# EAGLE library part DS2483 (library greg)
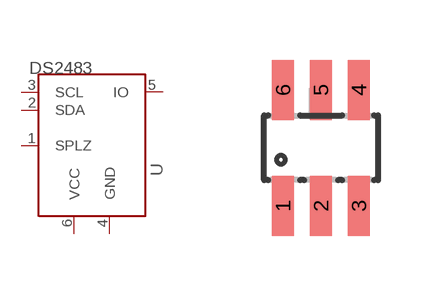
[diagram p7: symbol with the pads of SOT23-6; footprint SOT23-6]

Designator prefix -

## DS2483-SOT23-6  [SOT23-6]
1  SPLZ
2  SDA
3  SCL
4  GND  pwr
5  IO
6  VCC

## Footprint SOT23-6 (pad centres in mm)
smd 0.55 x 1.5: 1 -0.95,-1.45; 2 0,-1.45; 3 0.95,-1.45; 4 0.95,1.45; 5 0,1.45; 6 -0.95,1.45